# Altium footprint library Backplane_Board.PcbLib: 4 footprints
Each footprint in its own frame and in the unit in brackets; x right, y up, seen from the top. Pads: shape width x height; smd on the part's side, far side on the other; paste and mask are expansions set on the pad; w line width, h text height; cw(c..) or ccw(c..) is an arc to the next point about the centre after c.
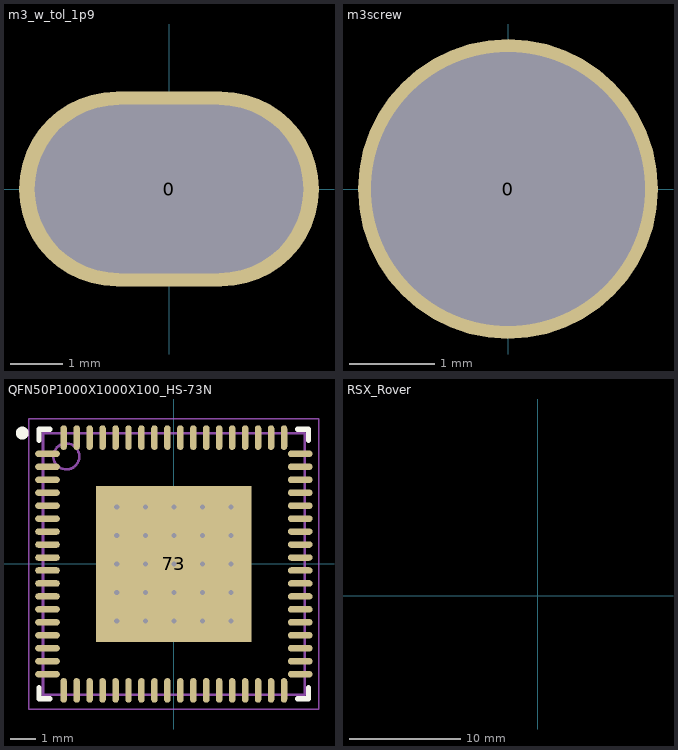
[diagram p0: the footprints below, top view; thin cyan lines are the x and y axes]

## m3_w_tol_1p9 [mm] "M3 with 1 axis 1.9mm tolerance"
pads (1):
  oval 5.7x3.7 hole 3.2 slot 5.1 at 0 deg: 0(0,0)

## m3screw [mm]
pads (1):
  round 3.5 hole 3.2: 0(0,0)

## QFN50P1000X1000X100_HS-73N [mm] "QFN, 72-Leads, Body 10.00x10.00mm, Pitch 0.50mm, Thermal Pad 6.00x6.00mm, IPC Medium Density"
height 1
pads (73):
  oval 0.95x0.25 smd: 1(-4.875,4.25) 2(-4.875,3.75) 3(-4.875,3.25) 4(-4.875,2.75) 5(-4.875,2.25) 6(-4.875,1.75) 7(-4.875,1.25) 8(-4.875,0.75) 9(-4.875,0.25) 10(-4.875,-0.25) 11(-4.875,-0.75) 12(-4.875,-1.25) 13(-4.875,-1.75) 14(-4.875,-2.25) 15(-4.875,-2.75) 16(-4.875,-3.25) 17(-4.875,-3.75) 18(-4.875,-4.25) 37(4.875,-4.25) 38(4.875,-3.75) 39(4.875,-3.25) 40(4.875,-2.75) 41(4.875,-2.25) 42(4.875,-1.75) 43(4.875,-1.25) 44(4.875,-0.75) 45(4.875,-0.25) 46(4.875,0.25) 47(4.875,0.75) 48(4.875,1.25) 49(4.875,1.75) 50(4.875,2.25) 51(4.875,2.75) 52(4.875,3.25) 53(4.875,3.75) 54(4.875,4.25)
  oval 0.25x0.95 smd: 19(-4.25,-4.875) 20(-3.75,-4.875) 21(-3.25,-4.875) 22(-2.75,-4.875) 23(-2.25,-4.875) 24(-1.75,-4.875) 25(-1.25,-4.875) 26(-0.75,-4.875) 27(-0.25,-4.875) 28(0.25,-4.875) 29(0.75,-4.875) 30(1.25,-4.875) 31(1.75,-4.875) 32(2.25,-4.875) 33(2.75,-4.875) 34(3.25,-4.875) 35(3.75,-4.875) 36(4.25,-4.875) 55(4.25,4.875) 56(3.75,4.875) 57(3.25,4.875) 58(2.75,4.875) 59(2.25,4.875) 60(1.75,4.875) 61(1.25,4.875) 62(0.75,4.875) 63(0.25,4.875) 64(-0.25,4.875) 65(-0.75,4.875) 66(-1.25,4.875) 67(-1.75,4.875) 68(-2.25,4.875) 69(-2.75,4.875) 70(-3.25,4.875) 71(-3.75,4.875) 72(-4.25,4.875)
  rect 6x6 smd: 73(0,0)
via -2.2,2.2 diameter 0.5 hole 0.2
via -1.1,2.2 diameter 0.5 hole 0.2
via 0,2.2 diameter 0.5 hole 0.2
via 1.1,2.2 diameter 0.5 hole 0.2
via 2.2,2.2 diameter 0.5 hole 0.2
via -2.2,1.1 diameter 0.5 hole 0.2
via -1.1,1.1 diameter 0.5 hole 0.2
via 0,1.1 diameter 0.5 hole 0.2
via 1.1,1.1 diameter 0.5 hole 0.2
via 2.2,1.1 diameter 0.5 hole 0.2
via -2.2,0 diameter 0.5 hole 0.2
via -1.1,0 diameter 0.5 hole 0.2
via 0,0 diameter 0.5 hole 0.2
via 1.1,0 diameter 0.5 hole 0.2
via 2.2,0 diameter 0.5 hole 0.2
via -2.2,-1.1 diameter 0.5 hole 0.2
via -1.1,-1.1 diameter 0.5 hole 0.2
via 0,-1.1 diameter 0.5 hole 0.2
via 1.1,-1.1 diameter 0.5 hole 0.2
via 2.2,-1.1 diameter 0.5 hole 0.2
via -2.2,-2.2 diameter 0.5 hole 0.2
via -1.1,-2.2 diameter 0.5 hole 0.2
via 0,-2.2 diameter 0.5 hole 0.2
via 1.1,-2.2 diameter 0.5 hole 0.2
via 2.2,-2.2 diameter 0.5 hole 0.2
Top Overlay:
  circle w0.25: c-5.85,5.05 r0.125
  lines w0.2: -5.2,-4.775 -5.2,-5.2 -4.775,-5.2 ; -5.2,4.775 -5.2,5.2 -4.775,5.2 ; 4.775,-5.2 5.2,-5.2 5.2,-4.775 ; 4.775,5.2 5.2,5.2 5.2,4.775
Mechanical 13:
  circle w0.1: c-4.15,4.15 r0.5
  lines w0.1: -5.05,-5.05 -5.05,5.05 5.05,5.05 5.05,-5.05 -5.05,-5.05
Mechanical 15:
  lines w0.05: -5.6,-5.6 -5.6,5.6 5.6,5.6 5.6,-5.6 -5.6,-5.6
  lines w0.1: -0.5,0 0.5,0 ; 0,-0.5 0,0.5
3D body "QFN50P1000X1000X100_HS-73N.step": height 1, standoff 0, extent -5.051,-5.051 5.051,5.051

## RSX_Rover [mm]
Multi-Layer:
  drawing of 10 lines, arcs and shapes, not listed